# EAGLE library part CS4560A (library CS4560)
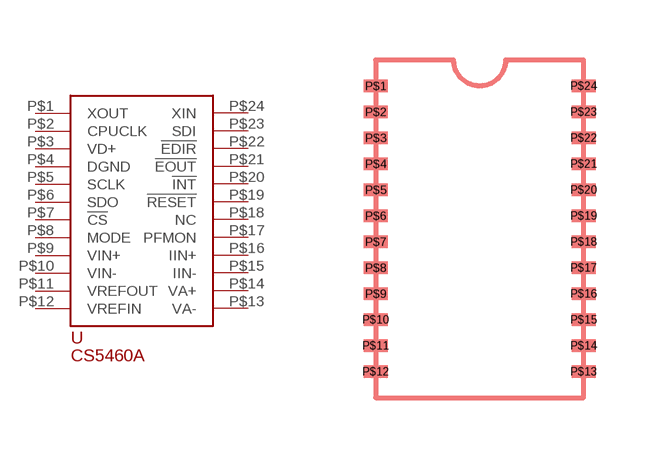
[diagram p0: symbol with the pads of SSOP24; footprint SSOP24]

Designator prefix -

## CS4560ASSOP24  [SSOP24]
P$1  XOUT
P$2  CPUCLK
P$3  VD+
P$4  DGND
P$5  SCLK
P$6  SDO
P$7  !CS!
P$8  MODE
P$9  VIN+
P$10  VIN-
P$11  VREFOUT
P$12  VREFIN
P$13  VA-
P$14  VA+
P$15  IIN-
P$16  IIN+
P$17  PFMON
P$18  NC
P$19  !RESET!
P$20  !INT!
P$21  !EOUT!
P$22  !EDIR!
P$23  SDI
P$24  XIN

## Footprint SSOP24 (pad centres in mm)
smd 0.61 x 0.305: P$1 0,0; P$2 0,-0.65; P$3 0,-1.3; P$4 0,-1.95; P$5 0,-2.6; P$6 0,-3.25; P$7 0,-3.9; P$8 0,-4.55; P$9 0,-5.2; P$10 0,-5.85; P$11 0,-6.5; P$12 0,-7.15; P$13 5.2,-7.15; P$14 5.2,-6.5; P$15 5.2,-5.85; P$16 5.2,-5.2; P$17 5.2,-4.55; P$18 5.2,-3.9; P$19 5.2,-3.25; P$20 5.2,-2.6; P$21 5.2,-1.95; P$22 5.2,-1.3; P$23 5.2,-0.65; P$24 5.2,0